# EAGLE library part G881A14102T3EU (library FormulaU)
CONN HEADER VERT 14POS 3MM
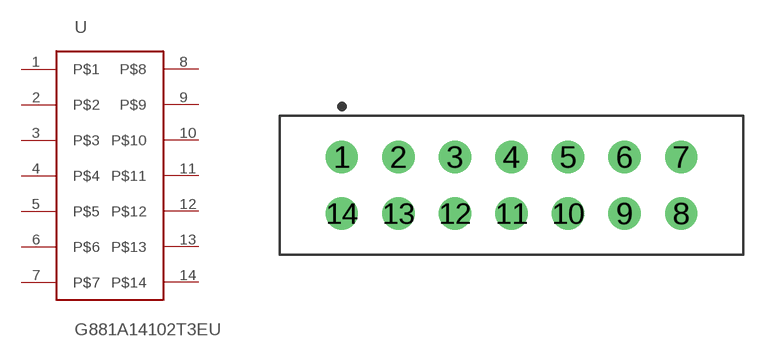
[diagram p0: symbol with the pads of G881A14102T3EU; footprint G881A14102T3EU]

Designator prefix -

## G881A14102T3EUG881A14102T3EU  [G881A14102T3EU]
1  P$1
2  P$2
3  P$3
4  P$4
5  P$5
6  P$6
7  P$7
8  P$8
9  P$9
10  P$10
11  P$11
12  P$12
13  P$13
14  P$14

## Footprint G881A14102T3EU (pad centres in mm)
Double-row, 14-pin Pin Header (Male) Straight, 3.00 mm (0.12 in) row pitch, 3.00 mm (0.12 in) col pitch, 0.90 mm mating length, 24.60 X 7.36 X 9.90 mm body Double-row (2X7), 14-pin Pin Header (Male) Straight package with 3.00 mm (0.12 in) row pitch, 3.00 mm (0.12 in) col pitch, 0.64 mm lead width, 3.20 mm tail length and 0.90 mm mating length with overall size 24.60 X 7.36 X 9.90 mm, pin pattern - clockwise from top left
drill 1.105 pad 1.705: 1 0,0; 2 3,0; 3 6,0; 4 9,0; 5 12,0; 6 15,0; 7 18,0; 8 18,-3; 9 15,-3; 10 12,-3; 11 9,-3; 12 6,-3; 13 3,-3; 14 0,-3